# Altium footprint library FootPrintLib_4.PcbLib: 700 footprints (part 17 of 44)
Each footprint in its own frame and in the unit in brackets; x right, y up, seen from the top. Pads: shape width x height; smd on the part's side, far side on the other; paste and mask are expansions set on the pad; w line width, h text height; cw(c..) or ccw(c..) is an arc to the next point about the centre after c.
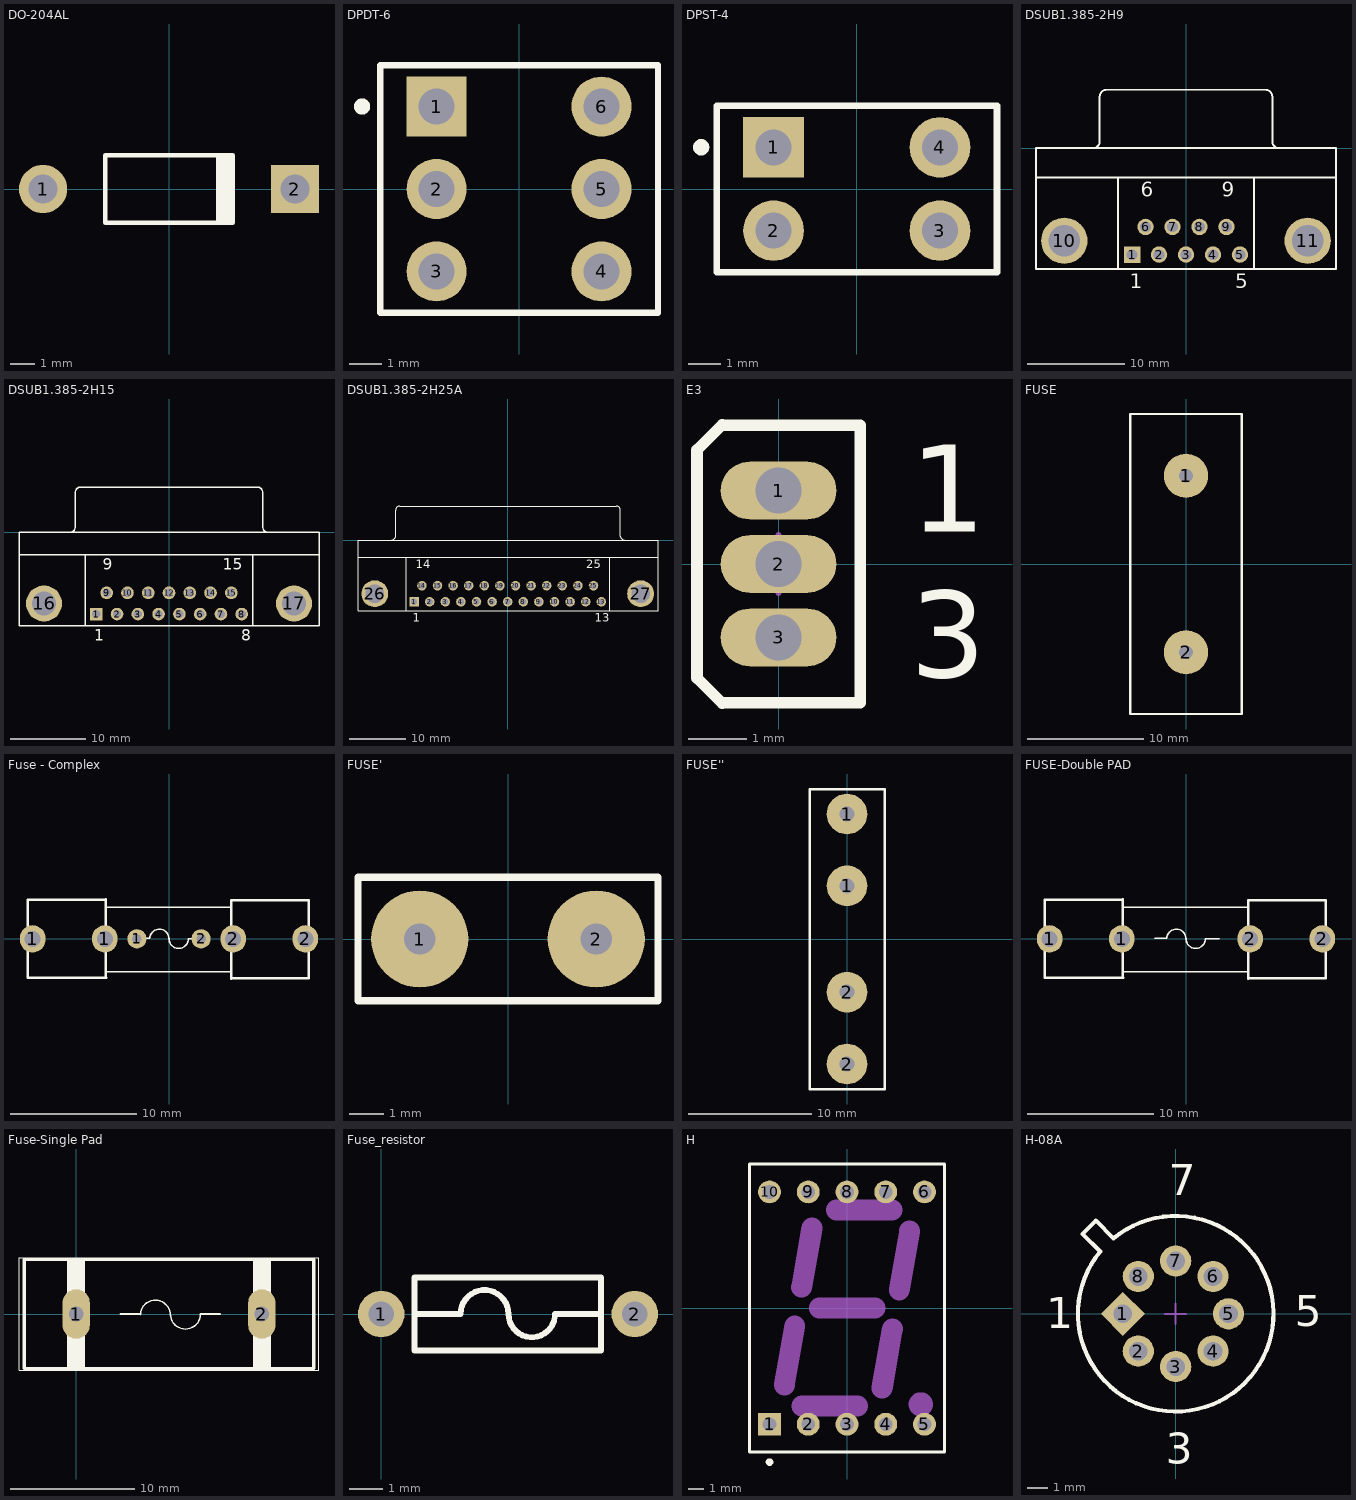
[diagram p16: the footprints below, top view; thin cyan lines are the x and y axes]

## DO-204AL [mm] "Diode, Axial; Body 5.2 x 2.7 mm (LxDia. max), Lead Dia. 0.86 mm (max)"
height 2.7
pads (2):
  round 2 hole 1.2: 1(-5.23,0)
  rect 2x2 hole 1.2: 2(5.23,0)
Top Overlay:
  rectangle: 1.95,-1.4 2.75,1.4
  lines w0.2: 2.65,-1.4 -2.65,-1.4 -2.65,1.4 2.65,1.4

## DPDT-6 [mm] "Switch; 6 Leads"
pads (6):
  rect 1.85x1.85 hole 1.1: 1(-2.54,2.54)
  round 1.85 hole 1.1: 2(-2.54,0) 3(-2.54,-2.54) 4(2.54,-2.54) 5(2.54,0) 6(2.54,2.54)
Top Overlay:
  circle w0.25: c-4.836,2.541 r0.125
  lines w0.2: -4.28,-3.81 4.28,-3.81 4.28,3.81 -4.28,3.81 -4.28,-3.81

## DPST-4 [mm] "Switch; 4 Leads"
pads (4):
  rect 1.85x1.85 hole 1.1: 1(-2.54,1.27)
  round 1.85 hole 1.1: 2(-2.54,-1.27) 3(2.54,-1.27) 4(2.54,1.27)
Top Overlay:
  circle w0.25: c-4.751,1.274 r0.125
  lines w0.2: -4.28,-2.54 4.28,-2.54 4.28,2.54 -4.28,2.54 -4.28,-2.54

## DSUB1.385-2H9 [mm] "Connector; D Subminiature; 9 Position; Right Angle; Pitch 1.385 mm"
height 12.75
pads (11):
  rect 1.69x1.69 hole 1.09: 1(-5.54,-10.92)
  round 1.69 hole 1.09: 2(-2.77,-10.92) 3(0,-10.92) 4(2.77,-10.92) 5(5.54,-10.92) 6(-4.155,-8.08) 7(-1.385,-8.08) 8(1.385,-8.08) 9(4.155,-8.08)
  round 4.76 hole 3.26: 10(-12.495,-9.5) 11(12.495,-9.5)
Top Overlay:
  lines w0.2: -15.4,-3 15.4,-3 ; -9.56,0.005 ccw(c-9.56,0.7) -8.865,0.7 -8.865,5.3 ; -8.86,5.305 cw(c-8.165,5.305) -8.165,6 8.165,6 cw(c8.165,5.305) 8.86,5.305 ; -7,-12.4 -7,-3 ; 7,-12.4 7,-3 ; 8.865,5.3 8.865,0.7 ccw(c9.56,0.7) 9.56,0.005 ; -15.4,-12.4 -15.4,0 15.4,0 15.4,-12.4 -15.4,-12.4
  text "1" at -5.79,-14.375 h1.5
  text "5" at 5.04,-14.375 h1.5
  text "9" at 3.655,-4.975 h1.5
  text "6" at -4.655,-4.975 h1.5

## DSUB1.385-2H15 [mm] "Connector; D Subminiature; 15 Position; Right Angle; Pitch 1.385 mm"
height 12.75
pads (17):
  rect 1.69x1.69 hole 1.09: 1(-9.695,-10.92)
  round 1.69 hole 1.09: 2(-6.925,-10.92) 3(-4.155,-10.92) 4(-1.385,-10.92) 5(1.385,-10.92) 6(4.155,-10.92) 7(6.925,-10.92) 8(9.695,-10.92) 9(-8.31,-8.08) 10(-5.54,-8.08) 11(-2.77,-8.08) 12(0,-8.08) 13(2.77,-8.08) 14(5.54,-8.08) 15(8.31,-8.08)
  round 4.8 hole 3.18: 16(-16.66,-9.5) 17(16.66,-9.5)
Top Overlay:
  lines w0.2: -20,-3 20,-3 ; -13.195,0.005 ccw(c-13.195,0.7) -12.5,0.7 -12.5,5.3 ; -12.495,5.305 cw(c-11.8,5.305) -11.8,6 11.8,6 cw(c11.8,5.305) 12.495,5.305 ; -11.14,-12.5 -11.14,-3 ; 11.14,-12.5 11.14,-3 ; 12.5,5.3 12.5,0.7 ccw(c13.195,0.7) 13.195,0.005 ; -20,-12.5 -20,0 20,0 20,-12.5 -20,-12.5
  text "1" at -9.945,-14.475 h1.5
  text "8" at 9.652,-14.475 h1.5
  text "15" at 7.185,-4.975 h1.5
  text "9" at -8.81,-4.975 h1.5

## DSUB1.385-2H25A [mm] "Connector; D Subminiature; 25 Position; Right Angle; Pitch 1.385 mm"
height 12.93
pads (27):
  rect 1.69x1.69 hole 1.09: 1(-16.566,-10.92)
  round 1.69 hole 1.09: 2(-13.805,-10.92) 3(-11.044,-10.92) 4(-8.283,-10.92) 5(-5.522,-10.92) 6(-2.761,-10.92) 7(0,-10.92) 8(2.761,-10.92) 9(5.522,-10.92) 10(8.283,-10.92) 11(11.044,-10.92) 12(13.805,-10.92) 13(16.566,-10.92) 14(-15.185,-8.08) 15(-12.424,-8.08) 16(-9.663,-8.08) 17(-6.902,-8.08) 18(-4.141,-8.08) 19(-1.38,-8.08) 20(1.381,-8.08) 21(4.142,-8.08) 22(6.903,-8.08) 23(9.664,-8.08) 24(12.425,-8.08) 25(15.186,-8.08)
  round 4.76 hole 3.26: 26(-23.526,-9.5) 27(23.526,-9.5)
Top Overlay:
  lines w0.2: -26.496,-3 26.604,-3 ; -20.541,0.005 ccw(c-20.541,0.7) -19.846,0.7 -19.846,5.3 ; -19.841,5.305 cw(c-19.146,5.305) -19.146,6 19.254,6 cw(c19.254,5.305) 19.949,5.305 ; -17.946,-12.5 -17.946,-3 ; 18.054,-12.5 18.054,-3 ; 19.954,5.3 19.954,0.7 ccw(c20.649,0.7) 20.649,0.005 ; -26.496,-12.5 26.604,-12.5 26.604,0 -26.496,0 -26.496,-12.5
  text "1" at -16.816,-14.475 h1.5
  text "13" at 15.441,-14.475 h1.5
  text "14" at -16.31,-4.975 h1.5
  text "25" at 13.936,-4.975 h1.5

## E3 [mm] "TO, Flat Index; 3 In-Line, Axial Leads; Body Dia. 4.6mm; Lead Dia. 0.5 mm (max)"
height 4.01
pads (3):
  oval 2x1 hole 0.8: 1(0,1.27) 2(0,0) 3(0,-1.27)
Top Overlay:
  lines w0.2: -0.97,-2.41 -1.41,-1.97 -1.41,1.97 -0.97,2.41 ; -0.97,-2.4 1.41,-2.4 1.41,2.4 -0.97,2.4
  text "1" at 2.275,0.555 h1.5
  text "3" at 2.275,-1.963 h1.5
Mechanical 15:
  lines w0.1: -0.5,0 0.5,0 ; 0,-0.5 0,0.5

## FUSE [mm]
pads (2):
  round 3.81 hole 1.2: 1(0,7.62) 2(0,-7.62)
Top Overlay:
  lines w0.203: -4.826,-12.954 4.826,-12.954 4.826,12.954 -4.826,12.954 -4.826,-12.954

## Fuse - Complex [mil]
pads (6):
  oval 80x85 hole 50: 1(-425,0) 1(-200,0) 2(200,0) 2(425,0)
  round 60 hole 30: 1(-100,0) 2(100,0)
Top Overlay:
  lines w3.94: -197.37,99.1 194.69,99.1 ; -197.05,-102 194.69,-102
  lines w5: -97.77,1.22 -59.98,1.22 ; -59.97,1.22 cw(c-30,0) 0,0 ccw(c30,0) 60,0 104.09,0
  lines w7.87: -197.44,122.64 -197.05,0.2 -197.05,-121.06 ; -197.05,122.24 -440,122.24 -440,-121.46 -195.87,-121.46 ; 193.9,-123.43 435,-123.43 435,120.28 198.23,120.28 ; 194.69,-123.82 194.69,119.88
3D body "Fuse Leg_2009.STEP": height 377.88, standoff -129.94, extent 196,-119 436,124.71
3D body "Fuse Small 1A.STEP": height 350.39, standoff 149.61, extent -392,-101 383.59,99.79
3D body "Fuse Leg_2009.STEP": height 377.88, standoff -129.94, extent -434,-121.46 -194,122.25

## FUSE' [mil]
pads (2):
  round 110 hole 35.43: 1(-100,0) 2(100,0)
Top Overlay:
  lines w8: -170,-70 170,-70 170,70 -170,70 -170,-70

## FUSE'' [mil]
pads (4):
  round 130 hole 47.24: 1(0,170) 1(0,400) 2(0,-400) 2(0,-170)
Top Overlay:
  lines w8: -120,-480 120,-480 120,480 -120,480 -120,-480

## FUSE-Double PAD [mil]
pads (4):
  oval 80x85 hole 50: 1(-425,0) 1(-200,0) 2(200,0) 2(425,0)
Top Overlay:
  lines w3.94: -197.37,99.1 194.69,99.1 ; -197.05,-102 194.69,-102
  lines w5: -97.77,1.22 -59.98,1.22 ; -59.97,1.22 cw(c-30,0) 0,0 ccw(c30,0) 60,0 104.09,0
  lines w7.87: -197.44,122.64 -197.05,0.2 -197.05,-121.06 ; -197.05,122.24 -440,122.24 -440,-121.46 -195.87,-121.46 ; 193.9,-123.43 435,-123.43 435,120.28 198.23,120.28 ; 194.69,-123.82 194.69,119.88
3D body "Fuse Leg_2009.STEP": height 377.88, standoff -129.94, extent -434,-121.46 -194,122.25
3D body "Fuse Small 1A.STEP": height 350.39, standoff 149.61, extent -392,-101 383.59,99.79
3D body "Fuse Leg_2009.STEP": height 377.88, standoff -129.94, extent 196,-119 436,124.71

## Fuse-Single Pad [mm]
height 14
pads (2):
  oval 2.2x4 hole 1.2: 1(0,0) 2(15,0)
Top Overlay:
  rectangle: 14.29,-4.4 15.74,4.4
  rectangle: -0.74,-4.4 0.71,4.4
  lines w0.08: -4.62,-4.56 -4.62,4.56 19.62,4.56 19.62,-4.56 -4.62,-4.56
  lines w0.127: 5.178,-0.05 cw(c6.393,-0.1) 7.61,-0.1 ; 7.61,0 ccw(c8.827,0) 10.043,0
  lines w0.2: 3.6,0 5.17,0 ; 10.07,0 11.6,0
  lines w0.254: -4.2,-4.4 -4.2,4.4 19.2,4.4 19.2,-4.4 -4.2,-4.4

## Fuse_resistor [mil]
pads (2):
  round 55 hole 30: 1(0,0) 2(300,0)
Top Overlay:
  lines w7: 39.37,0 93.81,0 cw(c122.2,0) 150.59,0 ccw(c178.15,0) 205.71,0 259.84,0
  lines w7.09: 39.37,-43.31 39.37,43.31 259.84,43.31 259.84,-43.31 39.37,-43.31

## H [mm] "LED, 7-Segment Display, 14.2 mm, RHD; 10 Leads; Row Space 15.24 mm; Pitch 2.54 mm"
height 8.25
pads (10):
  rect 1.5x1.5 hole 0.9: 1(-5.08,-7.62)
  round 1.5 hole 0.9: 2(-2.54,-7.62) 3(0,-7.62) 4(2.54,-7.62) 5(5.08,-7.62) 6(5.08,7.62) 7(2.54,7.62) 8(0,7.62) 9(-2.54,7.62) 10(-5.08,7.62)
Top Overlay:
  circle w0.25: c-5.08,-10.1 r0.125
  lines w0.2: -6.4,-9.45 6.4,-9.45 6.4,9.45 -6.4,9.45 -6.4,-9.45
Mechanical 1:
  circle w1: c4.842,-6.316 r0.296
  lines w1.37: -4.108,-5.054 -3.425,-1.17 ; -2.974,1.368 -2.293,5.255 ; -2.958,-6.429 0.692,-6.426 ; -1.821,0 1.828,0 ; -0.689,6.425 2.96,6.425 ; 2.295,-5.256 2.98,-1.371 ; 3.427,1.169 4.11,5.058
Mechanical 13:
  lines w0.1: -6.4,-9.45 -6.4,9.45 6.4,9.45 6.4,-9.45 -6.4,-9.45
3D body: height 8.25, standoff 0, extent -6.4,-9.45 6.4,9.45

## H-08A [mm] "Can; 8 Leads; Pin Circle Dia. 5.08 mm; Lead Dia. 0.53 mm (max)"
height 4.7
pads (8):
  rect 1.5x1.5 hole 0.9 rot 45: 1(-2.54,0)
  round 1.5 hole 0.9: 2(-1.796,-1.796) 3(0,-2.54) 4(1.796,-1.796) 5(2.54,0) 6(1.796,1.796) 7(0,2.54) 8(-1.796,1.796)
Top Overlay:
  lines w0.2: -4.475,3.838 -3.838,4.475 -2.99,3.626 cw(c0,0) -3.626,2.99 -4.475,3.838
  text "1" at -6.22,-0.696 h1.5
  text "3" at -0.469,-7.22 h1.5
  text "5" at 5.712,-0.589 h1.5
  text "7" at -0.332,5.7 h1.5
Mechanical 15:
  lines w0.1: -0.5,0 0.5,0 ; 0,-0.5 0,0.5